# EAGLE library part RN-4P (library hs-ul)
Widerstandsnetzwerk 4 Parallel
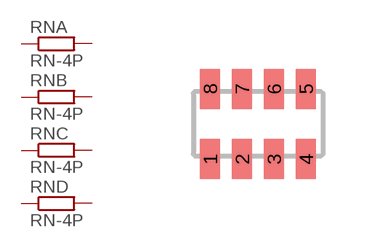
[diagram p2: symbol with the pads of R-4P; footprint R-4P]

Designator prefix RN; gates A=R-EU B=R-EU C=R-EU D=R-EU

## RN-4P1206  [R-4P]
1  A:1  pas
2  B:1  pas
3  C:1  pas
4  D:1  pas
5  D:2  pas
6  C:2  pas
7  B:2  pas
8  A:2  pas

## Footprint R-4P (pad centres in mm)
Widerstandsnetzwerk, 4 parallel, SMD 1206
smd 0.5 x 1: 1 -1.2,-0.88; 2 -0.4,-0.88; 3 0.4,-0.88; 4 1.2,-0.88; 5 1.2,0.88; 6 0.4,0.88; 7 -0.4,0.88; 8 -1.2,0.88